# Altium footprint library DM3D-SF.PcbLib: 1 footprints
Each footprint in its own frame and in the unit in brackets; x right, y up, seen from the top. Pads: shape width x height; smd on the part's side, far side on the other; paste and mask are expansions set on the pad; w line width, h text height; cw(c..) or ccw(c..) is an arc to the next point about the centre after c.
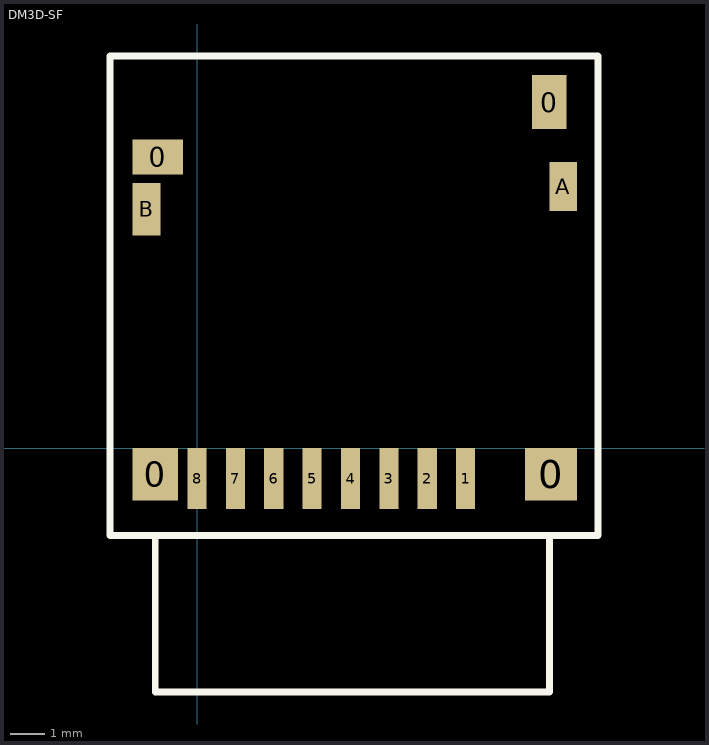
[diagram p0: the footprint, top view; thin cyan lines are the x and y axes]

## DM3D-SF [mm] "Hirose DM3 series MicroSD connector. Push pull type."
height 2
pads (14):
  rect 1.3x1.5 smd: 0(-1.2,-0.75)
  rect 1.45x1 smd: 0(-1.125,8.35)
  rect 1x1.55 smd: 0(10.1,9.925)
  rect 1.5x1.5 smd: 0(10.15,-0.75)
  rect 0.55x1.75 smd: 1(7.7,-0.875) 2(6.6,-0.875) 3(5.5,-0.875) 4(4.4,-0.875) 5(3.3,-0.875) 6(2.2,-0.875) 7(1.1,-0.875) 8(0,-0.875)
  rect 0.8x1.4 smd: A(10.5,7.5)
  rect 0.8x1.5 smd: B(-1.45,6.85)
Top Overlay:
  lines w0.2: -1.2,-2.5 -1.2,-7 10.1,-7 10.1,-2.5 ; -2.5,-2.5 11.5,-2.5 11.5,11.25 -2.5,11.25 -2.5,-2.5